# Altium footprint library Connector_Molex.PcbLib: 815 footprints (part 14 of 51)
Each footprint in its own frame and in the unit in brackets; x right, y up, seen from the top. Pads: shape width x height; smd on the part's side, far side on the other; paste and mask are expansions set on the pad; w line width, h text height; cw(c..) or ccw(c..) is an arc to the next point about the centre after c.
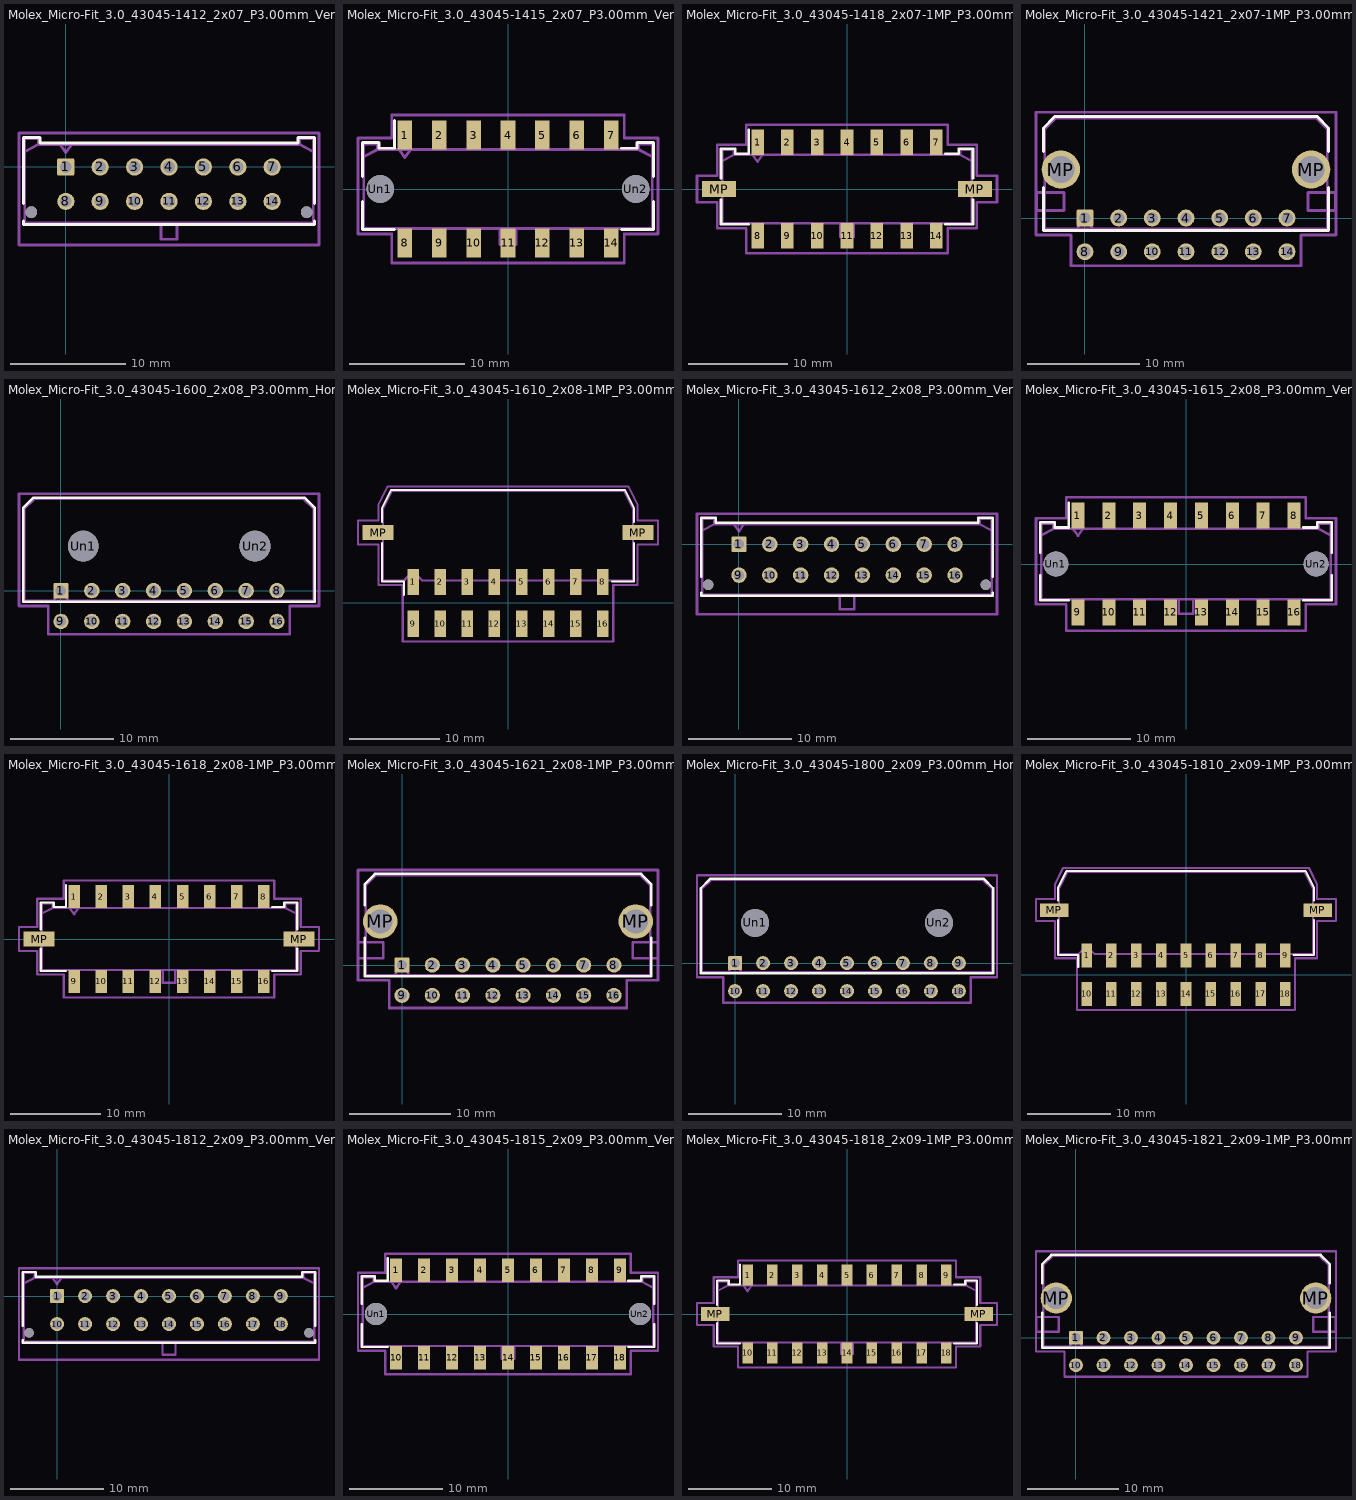
[diagram p13: the footprints below, top view; thin cyan lines are the x and y axes]

## Molex_Micro-Fit_3.0_43045-1412_2x07_P3.00mm_Vertical [mm]
pads (16):
  rrect17% 1.5x1.5 hole 1.02: 1(0,0)
  round 1.5 hole 1.02: 2(3,0) 3(6,0) 4(9,0) 5(12,0) 6(15,0) 7(18,0) 8(0,-3) 9(3,-3) 10(6,-3) 11(9,-3) 12(12,-3) 13(15,-3) 14(18,-3)
  round 1.02 hole 1.02: Un1(-3,-3.94) Un2(21,-3.94)
F.SilkS:
  lines w0.254: -3.685,-4.71 -3.685,-5.01 21.685,-5.01 21.685,-4.71 ; -3.685,-3.17 -3.685,2.58 -2.265,2.58 -2.265,2.08 20.265,2.08 20.265,2.58 21.685,2.58 21.685,-3.17
Top Assembly:
  lines w0.254: -3.575,1.34 -2.375,1.97 ; -0.5,1.97 0,1.263 0.5,1.97 ; 8.3,-4.9 8.3,-6.3 9.7,-6.3 9.7,-4.9 ; 21.575,1.34 20.375,1.97 ; -2.375,1.97 20.375,1.97 ; -2.375,1.97 -2.375,2.47 -3.575,2.47 -3.575,-4.9 21.575,-4.9 21.575,2.47 20.375,2.47 20.375,1.97
  text "'.Designator'" at 4.953,-5.04 h1
Top Courtyard:
  lines w0.254: -4.08,-6.81 22.08,-6.81 22.08,2.97 -4.08,2.97 -4.08,-6.81
Top Designator:
  text ".Designator" at 1.382,-2.428 h1.52

## Molex_Micro-Fit_3.0_43045-1415_2x07_P3.00mm_Vertical [mm]
pads (16):
  rect 1.27x2.54 smd: 1(-9,4.7) 2(-6,4.7) 3(-3,4.7) 4(0,4.7) 5(3,4.7) 6(6,4.7) 7(9,4.7) 8(-9,-4.7) 9(-6,-4.7) 10(-3,-4.7) 11(0,-4.7) 12(3,-4.7) 13(6,-4.7) 14(9,-4.7)
  round 2.41 hole 2.41: Un1(-11.15,0) Un2(11.15,0)
F.SilkS:
  lines w0.254: -12.685,-1.085 -12.685,-3.54 -9.895,-3.54 ; -12.685,1.085 -12.685,4.05 -11.265,4.05 -11.265,3.55 -9.895,3.55 -9.895,5.97 ; 9.895,-3.54 12.685,-3.54 12.685,-1.085 ; 9.895,3.55 11.265,3.55 11.265,4.05 12.685,4.05 12.685,1.085
Top Assembly:
  lines w0.254: -12.575,2.81 -11.375,3.44 ; -9.5,3.44 -9,2.733 -8.5,3.44 ; -0.7,-3.43 -0.7,-4.83 0.7,-4.83 0.7,-3.43 ; 12.575,2.81 11.375,3.44 ; -11.375,3.44 11.375,3.44 ; -11.375,3.44 -11.375,3.94 -12.575,3.94 -12.575,-3.43 12.575,-3.43 12.575,3.94 11.375,3.94 11.375,3.44
  text "'.Designator'" at -4.047,-3.57 h1
Top Courtyard:
  lines w0.254: -13.08,-3.93 -10.14,-3.93 -10.14,-6.47 0,-6.47 10.14,-6.47 10.14,-3.93 13.08,-3.93 13.08,4.44 10.14,4.44 10.14,6.47 0,6.47 -10.14,6.47 -10.14,4.44 -13.08,4.44 -13.08,-3.93
Top Designator:
  text ".Designator" at -7.618,-0.508 h1.52

## Molex_Micro-Fit_3.0_43045-1418_2x07-1MP_P3.00mm_Vertical [mm]
pads (16):
  rect 1.27x2.54 smd: 1(-9,4.7) 2(-6,4.7) 3(-3,4.7) 4(0,4.7) 5(3,4.7) 6(6,4.7) 7(9,4.7) 8(-9,-4.7) 9(-6,-4.7) 10(-3,-4.7) 11(0,-4.7) 12(3,-4.7) 13(6,-4.7) 14(9,-4.7)
  rect 3.43x1.65 smd: MP(-12.885,0) MP(12.885,0)
F.SilkS:
  lines w0.254: -12.685,-1.085 -12.685,-3.54 -9.895,-3.54 ; -12.685,1.085 -12.685,4.05 -11.265,4.05 -11.265,3.55 -9.895,3.55 -9.895,5.97 ; 9.895,-3.54 12.685,-3.54 12.685,-1.085 ; 9.895,3.55 11.265,3.55 11.265,4.05 12.685,4.05 12.685,1.085
Top Assembly:
  lines w0.254: -12.575,2.81 -11.375,3.44 ; -9.5,3.44 -9,2.733 -8.5,3.44 ; -0.7,-3.43 -0.7,-4.83 0.7,-4.83 0.7,-3.43 ; 12.575,2.81 11.375,3.44 ; -11.375,3.44 11.375,3.44 ; -11.375,3.44 -11.375,3.94 -12.575,3.94 -12.575,-3.43 12.575,-3.43 12.575,3.94 11.375,3.94 11.375,3.44
  text "'.Designator'" at -4.047,-3.57 h1
Top Courtyard:
  lines w0.254: -15.1,-1.33 -13.08,-1.33 -13.08,-3.93 -10.14,-3.93 -10.14,-6.47 0,-6.47 10.14,-6.47 10.14,-3.93 13.08,-3.93 13.08,-1.33 15.1,-1.33 15.1,1.33 13.08,1.33 13.08,4.44 10.14,4.44 10.14,6.47 0,6.47 -10.14,6.47 -10.14,4.44 -13.08,4.44 -13.08,1.33 -15.1,1.33 -15.1,-1.33
Top Designator:
  text ".Designator" at -7.618,-0.508 h1.52

## Molex_Micro-Fit_3.0_43045-1421_2x07-1MP_P3.00mm_Horizontal [mm]
pads (16):
  rrect17% 1.5x1.5 hole 1.02: 1(0,0)
  round 1.5 hole 1.02: 2(3,0) 3(6,0) 4(9,0) 5(12,0) 6(15,0) 7(18,0) 8(0,-3) 9(3,-3) 10(6,-3) 11(9,-3) 12(12,-3) 13(15,-3) 14(18,-3)
  round 3.41 hole 2.41: MP(-2.15,4.32) MP(20.15,4.32)
F.SilkS:
  lines w0.254: -3.685,2.725 -3.685,-1.1 21.685,-1.1 21.685,2.725 ; -3.685,5.915 -3.685,8.03 -2.685,9.03 20.685,9.03 21.685,8.03 21.685,5.915
Top Assembly:
  lines w0.254: -0.75,-0.99 0,0 0.75,-0.99 ; -3.575,-0.99 21.575,-0.99 21.575,7.92 20.575,8.92 -2.575,8.92 -3.575,7.92 -3.575,-0.99
  text "'.Designator'" at 4.953,7.38 h1
Top Courtyard:
  lines w0.254: -4.36,-1.5 -1.25,-1.5 -1.25,-4.25 19.25,-4.25 19.25,-1.5 22.36,-1.5 22.36,9.42 -4.36,9.42 -4.36,-1.5
Top Designator:
  text ".Designator" at 1.382,2.077 h1.52
Dwgs.User:
  lines w0.254: -4.325,0.66 -1.875,0.66 -1.875,2.26 -4.325,2.26 -4.325,0.66 ; 19.875,0.66 22.325,0.66 22.325,2.26 19.875,2.26 19.875,0.66
Cmts.User:
  text "CU KEEPOUT" at 20,1.301 h0.25
  text "CU KEEPOUT" at -4.2,1.301 h0.25

## Molex_Micro-Fit_3.0_43045-1600_2x08_P3.00mm_Horizontal [mm]
pads (18):
  rrect17% 1.5x1.5 hole 1.02: 1(0,0)
  round 1.5 hole 1.02: 2(3,0) 3(6,0) 4(9,0) 5(12,0) 6(15,0) 7(18,0) 8(21,0) 9(0,-3) 10(3,-3) 11(6,-3) 12(9,-3) 13(12,-3) 14(15,-3) 15(18,-3) 16(21,-3)
  round 3 hole 3: Un1(2.16,4.32) Un2(18.86,4.32)
F.SilkS:
  lines w0.254: -3.685,-1.1 24.685,-1.1 24.685,8.03 23.685,9.03 -2.685,9.03 -3.685,8.03 -3.685,-1.1
Top Assembly:
  lines w0.254: -0.75,-0.99 0,0 0.75,-0.99 ; -3.575,-0.99 24.575,-0.99 24.575,7.92 23.575,8.92 -2.575,8.92 -3.575,7.92 -3.575,-0.99
  text "'.Designator'" at 6.453,7.38 h1
Top Courtyard:
  lines w0.254: -4.08,-1.5 -1.25,-1.5 -1.25,-4.25 22.25,-4.25 22.25,-1.5 25.08,-1.5 25.08,9.42 -4.08,9.42 -4.08,-1.5
Top Designator:
  text ".Designator" at 2.882,2.077 h1.52

## Molex_Micro-Fit_3.0_43045-1610_2x08-1MP_P3.00mm_Horizontal [mm]
pads (18):
  rect 1.27x2.92 smd: 1(-10.5,2.315) 2(-7.5,2.315) 3(-4.5,2.315) 4(-1.5,2.315) 5(1.5,2.315) 6(4.5,2.315) 7(7.5,2.315) 8(10.5,2.315) 9(-10.5,-2.315) 10(-7.5,-2.315) 11(-4.5,-2.315) 12(-1.5,-2.315) 13(1.5,-2.315) 14(4.5,-2.315) 15(7.5,-2.315) 16(10.5,-2.315)
  rect 3.43x1.65 smd: MP(-14.385,7.785) MP(14.385,7.785)
F.SilkS:
  lines w0.254: -13.935,6.59 -13.935,2.365 -11.505,2.365 -11.505,0.905 ; -13.935,8.98 -13.935,10.495 -12.935,12.495 0,12.495 12.935,12.495 13.935,10.495 13.935,8.98 ; 11.505,2.365 13.935,2.365 13.935,6.59
Top Assembly:
  lines w0.254: -13.825,2.475 -11.5,2.475 -10.5,3.475 -9.5,2.475 0,2.475 11.135,2.475 13.825,2.475 13.825,8.61 13.825,10.385 12.825,12.385 0,12.385 -12.825,12.385 -13.825,10.385 -13.825,8.61 -13.825,2.475
  text "'.Designator'" at -4.047,10.84 h1
Top Courtyard:
  lines w0.254: -16.6,6.46 -14.33,6.46 -14.33,1.98 -11.64,1.98 -11.64,-4.28 0,-4.28 11.64,-4.28 11.64,1.98 14.33,1.98 14.33,6.46 16.6,6.46 16.6,9.11 14.33,9.11 14.33,10.89 13.33,12.89 0,12.89 -13.33,12.89 -14.33,10.89 -14.33,9.11 -16.6,9.11 -16.6,6.46
Top Designator:
  text ".Designator" at -7.618,3.797 h1.52

## Molex_Micro-Fit_3.0_43045-1612_2x08_P3.00mm_Vertical [mm]
pads (18):
  rrect17% 1.5x1.5 hole 1.02: 1(0,0)
  round 1.5 hole 1.02: 2(3,0) 3(6,0) 4(9,0) 5(12,0) 6(15,0) 7(18,0) 8(21,0) 9(0,-3) 10(3,-3) 11(6,-3) 12(9,-3) 13(12,-3) 14(15,-3) 15(18,-3) 16(21,-3)
  round 1.02 hole 1.02: Un1(-3,-3.94) Un2(24,-3.94)
F.SilkS:
  lines w0.254: -3.685,-4.71 -3.685,-5.01 24.685,-5.01 24.685,-4.71 ; -3.685,-3.17 -3.685,2.58 -2.265,2.58 -2.265,2.08 23.265,2.08 23.265,2.58 24.685,2.58 24.685,-3.17
Top Assembly:
  lines w0.254: -3.575,1.34 -2.375,1.97 ; -0.5,1.97 0,1.263 0.5,1.97 ; 9.8,-4.9 9.8,-6.3 11.2,-6.3 11.2,-4.9 ; 24.575,1.34 23.375,1.97 ; -2.375,1.97 23.375,1.97 ; -2.375,1.97 -2.375,2.47 -3.575,2.47 -3.575,-4.9 24.575,-4.9 24.575,2.47 23.375,2.47 23.375,1.97
  text "'.Designator'" at 6.453,-5.04 h1
Top Courtyard:
  lines w0.254: -4.08,-6.81 25.08,-6.81 25.08,2.97 -4.08,2.97 -4.08,-6.81
Top Designator:
  text ".Designator" at 2.882,-2.428 h1.52

## Molex_Micro-Fit_3.0_43045-1615_2x08_P3.00mm_Vertical [mm]
pads (18):
  rect 1.27x2.54 smd: 1(-10.5,4.7) 2(-7.5,4.7) 3(-4.5,4.7) 4(-1.5,4.7) 5(1.5,4.7) 6(4.5,4.7) 7(7.5,4.7) 8(10.5,4.7) 9(-10.5,-4.7) 10(-7.5,-4.7) 11(-4.5,-4.7) 12(-1.5,-4.7) 13(1.5,-4.7) 14(4.5,-4.7) 15(7.5,-4.7) 16(10.5,-4.7)
  round 2.41 hole 2.41: Un1(-12.65,0) Un2(12.65,0)
F.SilkS:
  lines w0.254: -14.185,-1.085 -14.185,-3.54 -11.395,-3.54 ; -14.185,1.085 -14.185,4.05 -12.765,4.05 -12.765,3.55 -11.395,3.55 -11.395,5.97 ; 11.395,-3.54 14.185,-3.54 14.185,-1.085 ; 11.395,3.55 12.765,3.55 12.765,4.05 14.185,4.05 14.185,1.085
Top Assembly:
  lines w0.254: -14.075,2.81 -12.875,3.44 ; -11,3.44 -10.5,2.733 -10,3.44 ; -0.7,-3.43 -0.7,-4.83 0.7,-4.83 0.7,-3.43 ; 14.075,2.81 12.875,3.44 ; -12.875,3.44 12.875,3.44 ; -12.875,3.44 -12.875,3.94 -14.075,3.94 -14.075,-3.43 14.075,-3.43 14.075,3.94 12.875,3.94 12.875,3.44
  text "'.Designator'" at -4.047,-3.57 h1
Top Courtyard:
  lines w0.254: -14.58,-3.93 -11.64,-3.93 -11.64,-6.47 0,-6.47 11.64,-6.47 11.64,-3.93 14.58,-3.93 14.58,4.44 11.64,4.44 11.64,6.47 0,6.47 -11.64,6.47 -11.64,4.44 -14.58,4.44 -14.58,-3.93
Top Designator:
  text ".Designator" at -7.618,-0.508 h1.52

## Molex_Micro-Fit_3.0_43045-1618_2x08-1MP_P3.00mm_Vertical [mm]
pads (18):
  rect 1.27x2.54 smd: 1(-10.5,4.7) 2(-7.5,4.7) 3(-4.5,4.7) 4(-1.5,4.7) 5(1.5,4.7) 6(4.5,4.7) 7(7.5,4.7) 8(10.5,4.7) 9(-10.5,-4.7) 10(-7.5,-4.7) 11(-4.5,-4.7) 12(-1.5,-4.7) 13(1.5,-4.7) 14(4.5,-4.7) 15(7.5,-4.7) 16(10.5,-4.7)
  rect 3.43x1.65 smd: MP(-14.385,0) MP(14.385,0)
F.SilkS:
  lines w0.254: -14.185,-1.085 -14.185,-3.54 -11.395,-3.54 ; -14.185,1.085 -14.185,4.05 -12.765,4.05 -12.765,3.55 -11.395,3.55 -11.395,5.97 ; 11.395,-3.54 14.185,-3.54 14.185,-1.085 ; 11.395,3.55 12.765,3.55 12.765,4.05 14.185,4.05 14.185,1.085
Top Assembly:
  lines w0.254: -14.075,2.81 -12.875,3.44 ; -11,3.44 -10.5,2.733 -10,3.44 ; -0.7,-3.43 -0.7,-4.83 0.7,-4.83 0.7,-3.43 ; 14.075,2.81 12.875,3.44 ; -12.875,3.44 12.875,3.44 ; -12.875,3.44 -12.875,3.94 -14.075,3.94 -14.075,-3.43 14.075,-3.43 14.075,3.94 12.875,3.94 12.875,3.44
  text "'.Designator'" at -4.047,-3.57 h1
Top Courtyard:
  lines w0.254: -16.6,-1.33 -14.58,-1.33 -14.58,-3.93 -11.64,-3.93 -11.64,-6.47 0,-6.47 11.64,-6.47 11.64,-3.93 14.58,-3.93 14.58,-1.33 16.6,-1.33 16.6,1.33 14.58,1.33 14.58,4.44 11.64,4.44 11.64,6.47 0,6.47 -11.64,6.47 -11.64,4.44 -14.58,4.44 -14.58,1.33 -16.6,1.33 -16.6,-1.33
Top Designator:
  text ".Designator" at -7.618,-0.508 h1.52

## Molex_Micro-Fit_3.0_43045-1621_2x08-1MP_P3.00mm_Horizontal [mm]
pads (18):
  rrect17% 1.5x1.5 hole 1.02: 1(0,0)
  round 1.5 hole 1.02: 2(3,0) 3(6,0) 4(9,0) 5(12,0) 6(15,0) 7(18,0) 8(21,0) 9(0,-3) 10(3,-3) 11(6,-3) 12(9,-3) 13(12,-3) 14(15,-3) 15(18,-3) 16(21,-3)
  round 3.41 hole 2.41: MP(-2.15,4.32) MP(23.15,4.32)
F.SilkS:
  lines w0.254: -3.685,2.725 -3.685,-1.1 24.685,-1.1 24.685,2.725 ; -3.685,5.915 -3.685,8.03 -2.685,9.03 23.685,9.03 24.685,8.03 24.685,5.915
Top Assembly:
  lines w0.254: -0.75,-0.99 0,0 0.75,-0.99 ; -3.575,-0.99 24.575,-0.99 24.575,7.92 23.575,8.92 -2.575,8.92 -3.575,7.92 -3.575,-0.99
  text "'.Designator'" at 6.453,7.38 h1
Top Courtyard:
  lines w0.254: -4.36,-1.5 -1.25,-1.5 -1.25,-4.25 22.25,-4.25 22.25,-1.5 25.36,-1.5 25.36,9.42 -4.36,9.42 -4.36,-1.5
Top Designator:
  text ".Designator" at 2.882,2.077 h1.52
Dwgs.User:
  lines w0.254: -4.325,0.66 -1.875,0.66 -1.875,2.26 -4.325,2.26 -4.325,0.66 ; 22.875,0.66 25.325,0.66 25.325,2.26 22.875,2.26 22.875,0.66
Cmts.User:
  text "CU KEEPOUT" at 23,1.301 h0.25
  text "CU KEEPOUT" at -4.2,1.301 h0.25

## Molex_Micro-Fit_3.0_43045-1800_2x09_P3.00mm_Horizontal [mm]
pads (20):
  rrect17% 1.5x1.5 hole 1.02: 1(0,0)
  round 1.5 hole 1.02: 2(3,0) 3(6,0) 4(9,0) 5(12,0) 6(15,0) 7(18,0) 8(21,0) 9(24,0) 10(0,-3) 11(3,-3) 12(6,-3) 13(9,-3) 14(12,-3) 15(15,-3) 16(18,-3) 17(21,-3) 18(24,-3)
  round 3 hole 3: Un1(2.16,4.32) Un2(21.86,4.32)
F.SilkS:
  lines w0.254: -3.685,-1.1 27.685,-1.1 27.685,8.03 26.685,9.03 -2.685,9.03 -3.685,8.03 -3.685,-1.1
Top Assembly:
  lines w0.254: -0.75,-0.99 0,0 0.75,-0.99 ; -3.575,-0.99 27.575,-0.99 27.575,7.92 26.575,8.92 -2.575,8.92 -3.575,7.92 -3.575,-0.99
  text "'.Designator'" at 7.953,7.38 h1
Top Courtyard:
  lines w0.254: -4.08,-1.5 -1.25,-1.5 -1.25,-4.25 25.25,-4.25 25.25,-1.5 28.08,-1.5 28.08,9.42 -4.08,9.42 -4.08,-1.5
Top Designator:
  text ".Designator" at 4.382,2.077 h1.52

## Molex_Micro-Fit_3.0_43045-1810_2x09-1MP_P3.00mm_Horizontal [mm]
pads (20):
  rect 1.27x2.92 smd: 1(-12,2.315) 2(-9,2.315) 3(-6,2.315) 4(-3,2.315) 5(0,2.315) 6(3,2.315) 7(6,2.315) 8(9,2.315) 9(12,2.315) 10(-12,-2.315) 11(-9,-2.315) 12(-6,-2.315) 13(-3,-2.315) 14(0,-2.315) 15(3,-2.315) 16(6,-2.315) 17(9,-2.315) 18(12,-2.315)
  rect 3.43x1.65 smd: MP(-15.885,7.785) MP(15.885,7.785)
F.SilkS:
  lines w0.254: -15.435,6.59 -15.435,2.365 -13.005,2.365 -13.005,0.905 ; -15.435,8.98 -15.435,10.495 -14.435,12.495 0,12.495 14.435,12.495 15.435,10.495 15.435,8.98 ; 13.005,2.365 15.435,2.365 15.435,6.59
Top Assembly:
  lines w0.254: -15.325,2.475 -13,2.475 -12,3.475 -11,2.475 0,2.475 12.635,2.475 15.325,2.475 15.325,8.61 15.325,10.385 14.325,12.385 0,12.385 -14.325,12.385 -15.325,10.385 -15.325,8.61 -15.325,2.475
  text "'.Designator'" at -4.047,10.84 h1
Top Courtyard:
  lines w0.254: -18.1,6.46 -15.83,6.46 -15.83,1.98 -13.14,1.98 -13.14,-4.28 0,-4.28 13.14,-4.28 13.14,1.98 15.83,1.98 15.83,6.46 18.1,6.46 18.1,9.11 15.83,9.11 15.83,10.89 14.83,12.89 0,12.89 -14.83,12.89 -15.83,10.89 -15.83,9.11 -18.1,9.11 -18.1,6.46
Top Designator:
  text ".Designator" at -7.618,3.797 h1.52

## Molex_Micro-Fit_3.0_43045-1812_2x09_P3.00mm_Vertical [mm]
pads (20):
  rrect17% 1.5x1.5 hole 1.02: 1(0,0)
  round 1.5 hole 1.02: 2(3,0) 3(6,0) 4(9,0) 5(12,0) 6(15,0) 7(18,0) 8(21,0) 9(24,0) 10(0,-3) 11(3,-3) 12(6,-3) 13(9,-3) 14(12,-3) 15(15,-3) 16(18,-3) 17(21,-3) 18(24,-3)
  round 1.02 hole 1.02: Un1(-3,-3.94) Un2(27,-3.94)
F.SilkS:
  lines w0.254: -3.685,-4.71 -3.685,-5.01 27.685,-5.01 27.685,-4.71 ; -3.685,-3.17 -3.685,2.58 -2.265,2.58 -2.265,2.08 26.265,2.08 26.265,2.58 27.685,2.58 27.685,-3.17
Top Assembly:
  lines w0.254: -3.575,1.34 -2.375,1.97 ; -0.5,1.97 0,1.263 0.5,1.97 ; 11.3,-4.9 11.3,-6.3 12.7,-6.3 12.7,-4.9 ; 27.575,1.34 26.375,1.97 ; -2.375,1.97 26.375,1.97 ; -2.375,1.97 -2.375,2.47 -3.575,2.47 -3.575,-4.9 27.575,-4.9 27.575,2.47 26.375,2.47 26.375,1.97
  text "'.Designator'" at 7.953,-5.04 h1
Top Courtyard:
  lines w0.254: -4.08,-6.81 28.08,-6.81 28.08,2.97 -4.08,2.97 -4.08,-6.81
Top Designator:
  text ".Designator" at 4.382,-2.428 h1.52

## Molex_Micro-Fit_3.0_43045-1815_2x09_P3.00mm_Vertical [mm]
pads (20):
  rect 1.27x2.54 smd: 1(-12,4.7) 2(-9,4.7) 3(-6,4.7) 4(-3,4.7) 5(0,4.7) 6(3,4.7) 7(6,4.7) 8(9,4.7) 9(12,4.7) 10(-12,-4.7) 11(-9,-4.7) 12(-6,-4.7) 13(-3,-4.7) 14(0,-4.7) 15(3,-4.7) 16(6,-4.7) 17(9,-4.7) 18(12,-4.7)
  round 2.41 hole 2.41: Un1(-14.15,0) Un2(14.15,0)
F.SilkS:
  lines w0.254: -15.685,-1.085 -15.685,-3.54 -12.895,-3.54 ; -15.685,1.085 -15.685,4.05 -14.265,4.05 -14.265,3.55 -12.895,3.55 -12.895,5.97 ; 12.895,-3.54 15.685,-3.54 15.685,-1.085 ; 12.895,3.55 14.265,3.55 14.265,4.05 15.685,4.05 15.685,1.085
Top Assembly:
  lines w0.254: -15.575,2.81 -14.375,3.44 ; -12.5,3.44 -12,2.733 -11.5,3.44 ; -0.7,-3.43 -0.7,-4.83 0.7,-4.83 0.7,-3.43 ; 15.575,2.81 14.375,3.44 ; -14.375,3.44 14.375,3.44 ; -14.375,3.44 -14.375,3.94 -15.575,3.94 -15.575,-3.43 15.575,-3.43 15.575,3.94 14.375,3.94 14.375,3.44
  text "'.Designator'" at -4.047,-3.57 h1
Top Courtyard:
  lines w0.254: -16.08,-3.93 -13.14,-3.93 -13.14,-6.47 0,-6.47 13.14,-6.47 13.14,-3.93 16.08,-3.93 16.08,4.44 13.14,4.44 13.14,6.47 0,6.47 -13.14,6.47 -13.14,4.44 -16.08,4.44 -16.08,-3.93
Top Designator:
  text ".Designator" at -7.618,-0.508 h1.52

## Molex_Micro-Fit_3.0_43045-1818_2x09-1MP_P3.00mm_Vertical [mm]
pads (20):
  rect 1.27x2.54 smd: 1(-12,4.7) 2(-9,4.7) 3(-6,4.7) 4(-3,4.7) 5(0,4.7) 6(3,4.7) 7(6,4.7) 8(9,4.7) 9(12,4.7) 10(-12,-4.7) 11(-9,-4.7) 12(-6,-4.7) 13(-3,-4.7) 14(0,-4.7) 15(3,-4.7) 16(6,-4.7) 17(9,-4.7) 18(12,-4.7)
  rect 3.43x1.65 smd: MP(-15.885,0) MP(15.885,0)
F.SilkS:
  lines w0.254: -15.685,-1.085 -15.685,-3.54 -12.895,-3.54 ; -15.685,1.085 -15.685,4.05 -14.265,4.05 -14.265,3.55 -12.895,3.55 -12.895,5.97 ; 12.895,-3.54 15.685,-3.54 15.685,-1.085 ; 12.895,3.55 14.265,3.55 14.265,4.05 15.685,4.05 15.685,1.085
Top Assembly:
  lines w0.254: -15.575,2.81 -14.375,3.44 ; -12.5,3.44 -12,2.733 -11.5,3.44 ; -0.7,-3.43 -0.7,-4.83 0.7,-4.83 0.7,-3.43 ; 15.575,2.81 14.375,3.44 ; -14.375,3.44 14.375,3.44 ; -14.375,3.44 -14.375,3.94 -15.575,3.94 -15.575,-3.43 15.575,-3.43 15.575,3.94 14.375,3.94 14.375,3.44
  text "'.Designator'" at -4.047,-3.57 h1
Top Courtyard:
  lines w0.254: -18.1,-1.33 -16.08,-1.33 -16.08,-3.93 -13.14,-3.93 -13.14,-6.47 0,-6.47 13.14,-6.47 13.14,-3.93 16.08,-3.93 16.08,-1.33 18.1,-1.33 18.1,1.33 16.08,1.33 16.08,4.44 13.14,4.44 13.14,6.47 0,6.47 -13.14,6.47 -13.14,4.44 -16.08,4.44 -16.08,1.33 -18.1,1.33 -18.1,-1.33
Top Designator:
  text ".Designator" at -7.618,-0.508 h1.52

## Molex_Micro-Fit_3.0_43045-1821_2x09-1MP_P3.00mm_Horizontal [mm]
pads (20):
  rrect17% 1.5x1.5 hole 1.02: 1(0,0)
  round 1.5 hole 1.02: 2(3,0) 3(6,0) 4(9,0) 5(12,0) 6(15,0) 7(18,0) 8(21,0) 9(24,0) 10(0,-3) 11(3,-3) 12(6,-3) 13(9,-3) 14(12,-3) 15(15,-3) 16(18,-3) 17(21,-3) 18(24,-3)
  round 3.41 hole 2.41: MP(-2.15,4.32) MP(26.15,4.32)
F.SilkS:
  lines w0.254: -3.685,2.725 -3.685,-1.1 27.685,-1.1 27.685,2.725 ; -3.685,5.915 -3.685,8.03 -2.685,9.03 26.685,9.03 27.685,8.03 27.685,5.915
Top Assembly:
  lines w0.254: -0.75,-0.99 0,0 0.75,-0.99 ; -3.575,-0.99 27.575,-0.99 27.575,7.92 26.575,8.92 -2.575,8.92 -3.575,7.92 -3.575,-0.99
  text "'.Designator'" at 7.953,7.38 h1
Top Courtyard:
  lines w0.254: -4.36,-1.5 -1.25,-1.5 -1.25,-4.25 25.25,-4.25 25.25,-1.5 28.36,-1.5 28.36,9.42 -4.36,9.42 -4.36,-1.5
Top Designator:
  text ".Designator" at 4.382,2.077 h1.52
Dwgs.User:
  lines w0.254: -4.325,0.66 -1.875,0.66 -1.875,2.26 -4.325,2.26 -4.325,0.66 ; 25.875,0.66 28.325,0.66 28.325,2.26 25.875,2.26 25.875,0.66
Cmts.User:
  text "CU KEEPOUT" at 26,1.301 h0.25
  text "CU KEEPOUT" at -4.2,1.301 h0.25